# Altium footprint library OAK-SoM-MAX.PcbLib: 3 footprints
Each footprint in its own frame and in the unit in brackets; x right, y up, seen from the top. Pads: shape width x height; smd on the part's side, far side on the other; paste and mask are expansions set on the pad; w line width, h text height; cw(c..) or ccw(c..) is an arc to the next point about the centre after c.
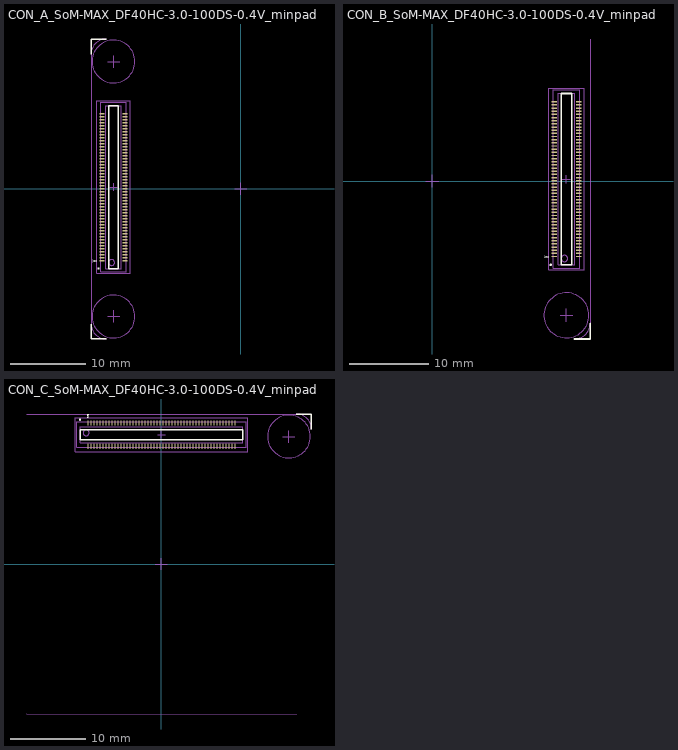
[diagram p0: the footprints below, top view; thin cyan lines are the x and y axes]

## CON_A_SoM-MAX_DF40HC-3.0-100DS-0.4V_minpad [mm] "3.0MM MATED HEIGHT CONN HDR 100POS 0.4MM SMD GOLD"
height 2.9
pads (100):
  rect 0.7x0.18 smd: 1(-18.54,-9.553) 2(-15.46,-9.553) 3(-18.54,-9.153) 4(-15.46,-9.153) 5(-18.54,-8.753) 6(-15.46,-8.753) 7(-18.54,-8.353) 8(-15.46,-8.353) 9(-18.54,-7.953) 10(-15.46,-7.953) 11(-18.54,-7.553) 12(-15.46,-7.553) 13(-18.54,-7.153) 14(-15.46,-7.153) 15(-18.54,-6.753) 16(-15.46,-6.753) 17(-18.54,-6.353) 18(-15.46,-6.353) 19(-18.54,-5.953) 20(-15.46,-5.953) 21(-18.54,-5.553) 22(-15.46,-5.553) 23(-18.54,-5.153) 24(-15.46,-5.153) 25(-18.54,-4.753) 26(-15.46,-4.753) 27(-18.54,-4.353) 28(-15.46,-4.353) 29(-18.54,-3.953) 30(-15.46,-3.953) 31(-18.54,-3.553) 32(-15.46,-3.553) 33(-18.54,-3.153) 34(-15.46,-3.153) 35(-18.54,-2.753) 36(-15.46,-2.753) 37(-18.54,-2.353) 38(-15.46,-2.353) 39(-18.54,-1.953) 40(-15.46,-1.953) 41(-18.54,-1.553) 42(-15.46,-1.553) 43(-18.54,-1.153) 44(-15.46,-1.153) 45(-18.54,-0.753) 46(-15.46,-0.753) 47(-18.54,-0.353) 48(-15.46,-0.353) 49(-18.54,0.047) 50(-15.46,0.047) 51(-18.54,0.447) 52(-15.46,0.447) 53(-18.54,0.847) 54(-15.46,0.847) 55(-18.54,1.247) 56(-15.46,1.247) 57(-18.54,1.647) 58(-15.46,1.647) 59(-18.54,2.047) 60(-15.46,2.047) 61(-18.54,2.447) 62(-15.46,2.447) 63(-18.54,2.847) 64(-15.46,2.847) 65(-18.54,3.247) 66(-15.46,3.247) 67(-18.54,3.647) 68(-15.46,3.647) 69(-18.54,4.047) 70(-15.46,4.047) 71(-18.54,4.447) 72(-15.46,4.447) 73(-18.54,4.847) 74(-15.46,4.847) 75(-18.54,5.247) 76(-15.46,5.247) 77(-18.54,5.647) 78(-15.46,5.647) 79(-18.54,6.047) 80(-15.46,6.047) 81(-18.54,6.447) 82(-15.46,6.447) 83(-18.54,6.847) 84(-15.46,6.847) 85(-18.54,7.247) 86(-15.46,7.247) 87(-18.54,7.647) 88(-15.46,7.647) 89(-18.54,8.047) 90(-15.46,8.047) 91(-18.54,8.447) 92(-15.46,8.447) 93(-18.54,8.847) 94(-15.46,8.847) 95(-18.54,9.247) 96(-15.46,9.247) 97(-18.54,9.647) 98(-15.46,9.647) 99(-18.54,10.047) 100(-15.46,10.047)
Top Overlay:
  circle w0.254: c-19,-10.603 r0.025
  lines w0.102: -19.75,-9.668 -19.25,-9.553 -19.75,-9.438
  lines w0.2: -20,-18 -20,-20 -18,-20 ; -20,18 -20,20 -18,20 ; -17.65,-10.603 -17.65,11.097 -16.35,11.097 -16.35,-10.603 -17.65,-10.603
Top Assembly:
  circle w0.1: c-17,17 r2.85
  circle w0.1: c-17.25,-9.803 r0.4
  circle w0.1: c-17,-17 r2.85
  lines w0.1: -20,-18 -20,18 ; -19.993,18 cw(c-17.993,18) -17.993,20 ; -19.988,-18 ccw(c-17.988,-18) -17.988,-20 ; -17.8,-17 -17,-17 ; -17.8,17 -17,17 ; -17,-17.8 -17,-17 ; -17,-16.2 -17,-17 ; -17,16.2 -17,17 ; -17,17.8 -17,17 ; -16.2,-17 -17,-17 ; -16.2,17 -17,17 ; -0.8,0 0,0 ; 0,-0.8 0,0 ; 0,0.8 0,0 ; 0.8,0 0,0 ; -18.05,-10.603 -15.95,-10.603 -15.95,11.097 -18.05,11.097 -18.05,-10.603
  text "'.Designator'" at -17,0.247 h1
  text "CONNECTOR A" at -19.016,-3.9 h1.52
Top Courtyard:
  lines w0.05: -17.5,0.247 -16.5,0.247 ; -17,-0.253 -17,0.747 ; -19.25,-11.253 -14.75,-11.253 -14.75,11.747 -19.25,11.747 -19.25,-11.253
Top Component Outline:
  circle w0.1: c-17,17 r2.85
  circle w0.1: c-17,-17 r2.85
  lines w0.1: -18.69,-11.048 -18.69,11.552 -15.31,11.552 -15.31,-11.048 -18.69,-11.048
3D body "DF40HC(3.0)-100DS-0.4V.stp": height 2.85, standoff -0.05, extent -18.69,-11.048 -15.31,11.552
3D body "DM3399_OAK-SoM-MAX_Production.step": height 5.75, standoff 0.86, extent -20,-20 20,20

## CON_B_SoM-MAX_DF40HC-3.0-100DS-0.4V_minpad [mm] "3.0MM MATED HEIGHT CONN HDR 100POS 0.4MM SMD GOLD"
height 2.9
pads (100):
  rect 0.7x0.18 smd: 1(15.46,-9.553) 2(18.54,-9.553) 3(15.46,-9.153) 4(18.54,-9.153) 5(15.46,-8.753) 6(18.54,-8.753) 7(15.46,-8.353) 8(18.54,-8.353) 9(15.46,-7.953) 10(18.54,-7.953) 11(15.46,-7.553) 12(18.54,-7.553) 13(15.46,-7.153) 14(18.54,-7.153) 15(15.46,-6.753) 16(18.54,-6.753) 17(15.46,-6.353) 18(18.54,-6.353) 19(15.46,-5.953) 20(18.54,-5.953) 21(15.46,-5.553) 22(18.54,-5.553) 23(15.46,-5.153) 24(18.54,-5.153) 25(15.46,-4.753) 26(18.54,-4.753) 27(15.46,-4.353) 28(18.54,-4.353) 29(15.46,-3.953) 30(18.54,-3.953) 31(15.46,-3.553) 32(18.54,-3.553) 33(15.46,-3.153) 34(18.54,-3.153) 35(15.46,-2.753) 36(18.54,-2.753) 37(15.46,-2.353) 38(18.54,-2.353) 39(15.46,-1.953) 40(18.54,-1.953) 41(15.46,-1.553) 42(18.54,-1.553) 43(15.46,-1.153) 44(18.54,-1.153) 45(15.46,-0.753) 46(18.54,-0.753) 47(15.46,-0.353) 48(18.54,-0.353) 49(15.46,0.047) 50(18.54,0.047) 51(15.46,0.447) 52(18.54,0.447) 53(15.46,0.847) 54(18.54,0.847) 55(15.46,1.247) 56(18.54,1.247) 57(15.46,1.647) 58(18.54,1.647) 59(15.46,2.047) 60(18.54,2.047) 61(15.46,2.447) 62(18.54,2.447) 63(15.46,2.847) 64(18.54,2.847) 65(15.46,3.247) 66(18.54,3.247) 67(15.46,3.647) 68(18.54,3.647) 69(15.46,4.047) 70(18.54,4.047) 71(15.46,4.447) 72(18.54,4.447) 73(15.46,4.847) 74(18.54,4.847) 75(15.46,5.247) 76(18.54,5.247) 77(15.46,5.647) 78(18.54,5.647) 79(15.46,6.047) 80(18.54,6.047) 81(15.46,6.447) 82(18.54,6.447) 83(15.46,6.847) 84(18.54,6.847) 85(15.46,7.247) 86(18.54,7.247) 87(15.46,7.647) 88(18.54,7.647) 89(15.46,8.047) 90(18.54,8.047) 91(15.46,8.447) 92(18.54,8.447) 93(15.46,8.847) 94(18.54,8.847) 95(15.46,9.247) 96(18.54,9.247) 97(15.46,9.647) 98(18.54,9.647) 99(15.46,10.047) 100(18.54,10.047)
Top Overlay:
  circle w0.254: c15,-10.603 r0.025
  lines w0.102: 14.25,-9.668 14.75,-9.553 14.25,-9.438
  lines w0.2: 18,-20 20,-20 20,-18 ; 16.35,-10.603 17.65,-10.603 17.65,11.097 16.35,11.097 16.35,-10.603
Top Assembly:
  circle w0.1: c16.75,-9.803 r0.4
  circle w0.1: c17,-17 r2.85
  lines w0.1: -0.8,0 0,0 ; 0,-0.8 0,0 ; 0,0.8 0,0 ; 0.8,0 0,0 ; 16.2,-17 17,-17 ; 17,-17.8 17,-17 ; 17,-16.2 17,-17 ; 17.8,-17 17,-17 ; 18,-20.001 ccw(c18,-18.001) 20,-18.001 20,18 ; 15.95,-10.603 15.95,11.097 18.05,11.097 18.05,-10.603 15.95,-10.603
  text "CONNECTOR B" at 18.907,5.247 h1.52
  text "OAK-SoM-MAX Module / <1mm clearance" at 1.7,7.147 h2
  text "'.Designator'" at 17,0.247 h1
Top Courtyard:
  lines w0.05: 16.5,0.247 17.5,0.247 ; 17,-0.253 17,0.747 ; 14.75,-11.253 14.75,11.747 19.25,11.747 19.25,-11.253 14.75,-11.253
Top Component Outline:
  circle w0.1: c17,-17 r2.85
  lines w0.1: 15.31,-11.048 18.69,-11.048 18.69,11.552 15.31,11.552 15.31,-11.048
3D body "DF40HC(3.0)-100DS-0.4V.stp": height 2.85, standoff -0.05, extent 15.31,-11.048 18.69,11.552

## CON_C_SoM-MAX_DF40HC-3.0-100DS-0.4V_minpad [mm] "3.0MM MATED HEIGHT CONN HDR 100POS 0.4MM SMD GOLD"
height 2.9
pads (100):
  rect 0.18x0.7 smd: 1(-9.8,18.787) 2(-9.8,15.707) 3(-9.4,18.787) 4(-9.4,15.707) 5(-9,18.787) 6(-9,15.707) 7(-8.6,18.787) 8(-8.6,15.707) 9(-8.2,18.787) 10(-8.2,15.707) 11(-7.8,18.787) 12(-7.8,15.707) 13(-7.4,18.787) 14(-7.4,15.707) 15(-7,18.787) 16(-7,15.707) 17(-6.6,18.787) 18(-6.6,15.707) 19(-6.2,18.787) 20(-6.2,15.707) 21(-5.8,18.787) 22(-5.8,15.707) 23(-5.4,18.787) 24(-5.4,15.707) 25(-5,18.787) 26(-5,15.707) 27(-4.6,18.787) 28(-4.6,15.707) 29(-4.2,18.787) 30(-4.2,15.707) 31(-3.8,18.787) 32(-3.8,15.707) 33(-3.4,18.787) 34(-3.4,15.707) 35(-3,18.787) 36(-3,15.707) 37(-2.6,18.787) 38(-2.6,15.707) 39(-2.2,18.787) 40(-2.2,15.707) 41(-1.8,18.787) 42(-1.8,15.707) 43(-1.4,18.787) 44(-1.4,15.707) 45(-1,18.787) 46(-1,15.707) 47(-0.6,18.787) 48(-0.6,15.707) 49(-0.2,18.787) 50(-0.2,15.707) 51(0.2,18.787) 52(0.2,15.707) 53(0.6,18.787) 54(0.6,15.707) 55(1,18.787) 56(1,15.707) 57(1.4,18.787) 58(1.4,15.707) 59(1.8,18.787) 60(1.8,15.707) 61(2.2,18.787) 62(2.2,15.707) 63(2.6,18.787) 64(2.6,15.707) 65(3,18.787) 66(3,15.707) 67(3.4,18.787) 68(3.4,15.707) 69(3.8,18.787) 70(3.8,15.707) 71(4.2,18.787) 72(4.2,15.707) 73(4.6,18.787) 74(4.6,15.707) 75(5,18.787) 76(5,15.707) 77(5.4,18.787) 78(5.4,15.707) 79(5.8,18.787) 80(5.8,15.707) 81(6.2,18.787) 82(6.2,15.707) 83(6.6,18.787) 84(6.6,15.707) 85(7,18.787) 86(7,15.707) 87(7.4,18.787) 88(7.4,15.707) 89(7.8,18.787) 90(7.8,15.707) 91(8.2,18.787) 92(8.2,15.707) 93(8.6,18.787) 94(8.6,15.707) 95(9,18.787) 96(9,15.707) 97(9.4,18.787) 98(9.4,15.707) 99(9.8,18.787) 100(9.8,15.707)
Top Overlay:
  circle w0.254: c-10.85,19.247 r0.025
  lines w0.102: -9.915,19.997 -9.8,19.497 -9.685,19.997
  lines w0.2: 18,20 20,20 20,18 ; -10.85,16.597 10.85,16.597 10.85,17.897 -10.85,17.897 -10.85,16.597
Top Assembly:
  circle w0.1: c17,17 r2.85
  circle w0.1: c-10.05,17.497 r0.4
  lines w0.1: -17.993,20 18,20 cw(c18,18) 20,18 ; -17.988,-20 18,-20 ; -0.8,0 0,0 ; 0,-0.8 0,0 ; 0,0.8 0,0 ; 0.8,0 0,0 ; 16.2,17 17,17 ; 17,16.2 17,17 ; 17,17.8 17,17 ; 17.8,17 17,17 ; -10.85,16.197 10.85,16.197 10.85,18.297 -10.85,18.297 -10.85,16.197
  text "'.Designator'" at 0,17.247 h1
  text "CONNECTOR C" at -5.71,19.154 h1.52
Top Courtyard:
  lines w0.05: -0.5,17.247 0.5,17.247 ; 0,16.747 0,17.747 ; -11.5,14.997 -11.5,19.497 11.5,19.497 11.5,14.997 -11.5,14.997
Top Component Outline:
  circle w0.1: c17,17 r2.85
  lines w0.1: -11.295,15.557 11.305,15.557 11.305,18.937 -11.295,18.937 -11.295,15.557
3D body "DF40HC(3.0)-100DS-0.4V.stp": height 2.85, standoff -0.05, extent -11.295,15.557 11.305,18.937